# Altium schematic symbol library Vowstar_IC_General.SchLib: 140 symbols (part 1 of 2)
Pins are listed as number, name and electrical type; pins without a type are passive.

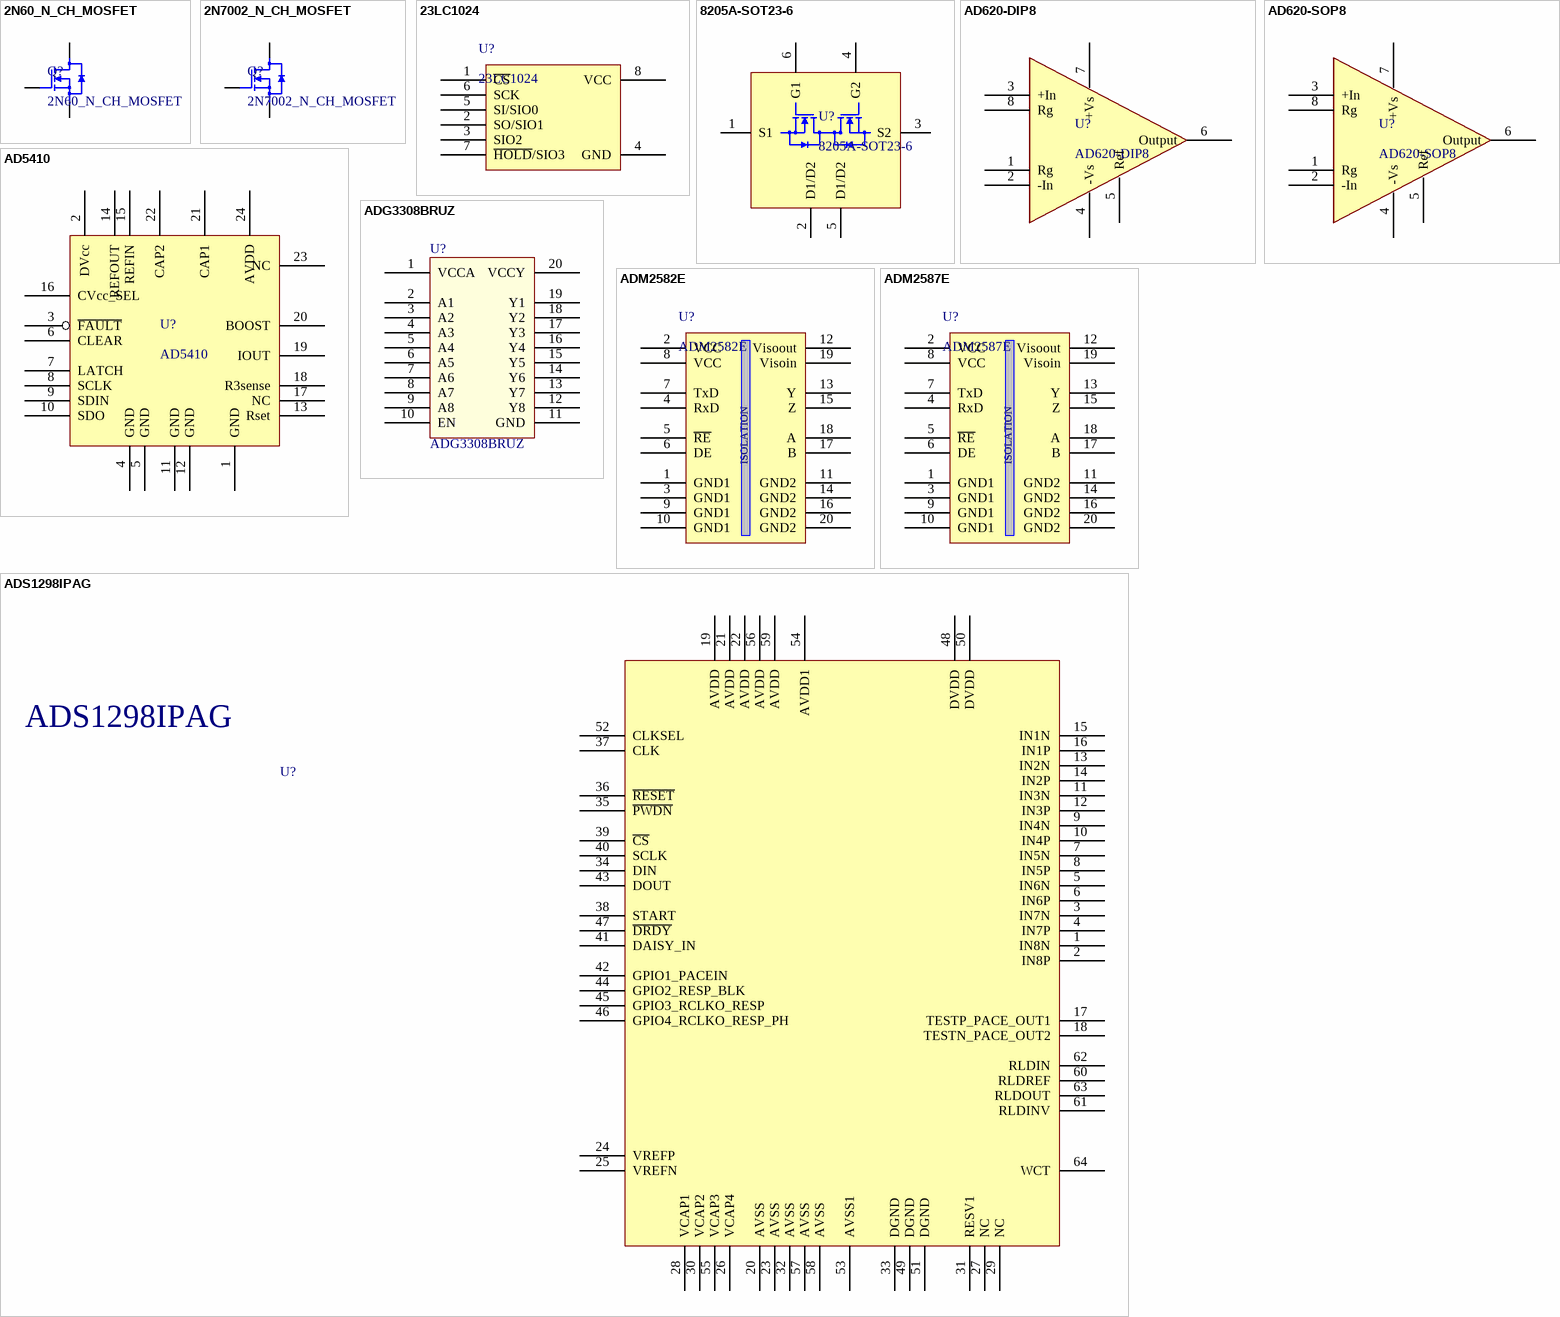
[diagram p0: symbols 2N60_N_CH_MOSFET to ADS1298IPAG]

## 2N60_N_CH_MOSFET
designator Q?
2 A, 600 Volts N-CHANNEL MOSFET
footprint TO-252-2 (TO-252-2,TD03B)
pins: 1 G, 2 D, 3 S

## 2N7002_N_CH_MOSFET
designator Q?
2N7002 N Channel,0.15A,60V. RDS(ON) = 1.2Ω @ VGS = 10 V
footprint SOT23-3 (SOT-23; 3 Leads; Body 3.0 x 2.5 mm, inc. leads (LxW max))
pins: 1 G, 2 S, 3 D

## 23LC1024
designator U?
1Mbit SPI Serial SRAM with SDI and SQI Interface
footprint SOP-8_N (8-Pin Small Outline Integrated Circuit 1.27 mm Pitch, IPC Medium Density)
footprint SOP-8_L (8-Pin Small Outline Integrated Circuit 1.27 mm Pitch, IPC High Density)
footprint SOP-8_M (8-Pin Small Outline Integrated Circuit 1.27 mm Pitch, IPC Low Density)
footprint DIP-8 (DIP8封装，100mil间距，300mil引脚宽度)
pins: 1 ~{CS} "Chip Select Input", 2 SO/SIO1 "Serial Output (SPI)/Serial I/O 1 (SDI)/Serial I/O 1 (SQI)", 3 SIO2 "Serial I/O 2 (SQI)", 4 GND "Ground", 5 SI/SIO0 "Serial Input (SPI)/Serial I/O 0 (SDI)/Serial I/O 0 (SQI)", 6 SCK "Serial Clock Input", 7 ~{HOLD}/SIO3 "Hold/Serial I/O 3", 8 VCC "Power Supply"

## 8205A-SOT23-6
designator U?
8205A Dual N-Channel Enhancement-Mode MOSFET (20V, 4A)
footprint SOT23-6 (SOT-457/SC-74; 6 Leads; Body 3 x 3 mm, inc. leads (LxW max))
pins: 1 S1, 2 D1/D2, 3 S2, 4 G2, 5 D1/D2, 6 G1

## AD620-DIP8
designator U?
footprint AD620-DIP8
pins: 1 Rg, 2 -In, 3 +In, 4 -Vs, 5 Ref, 6 Output, 7 +Vs, 8 Rg

## AD620-SOP8
designator U?
footprint AD620-SOP8
pins: 1 Rg, 2 -In, 3 +In, 4 -Vs, 5 Ref, 6 Output, 7 +Vs, 8 Rg

## AD5410
designator U?
footprint AD5410
pins: 1 GND, 2 DVcc, 3 ~{FAULT}, 4 GND, 5 GND, 6 CLEAR, 7 LATCH, 8 SCLK, 9 SDIN, 10 SDO, 11 GND, 12 GND, 13 Rset, 14 REFOUT, 15 REFIN, 16 CVcc_SEL, 17 NC, 18 R3sense, 19 IOUT, 20 BOOST, 21 CAP1, 22 CAP2, 23 NC, 24 AVDD

## ADG3308BRUZ
designator U?
footprint TSSOP-20 (TSSOP, Plastic; 20 Leads; Body Width 5.3 mm; Pitch 0.65 mm)
pins: 1 VCCA, 2 A1, 3 A2, 4 A3, 5 A4, 6 A5, 7 A6, 8 A7, 9 A8, 10 EN, 11 GND, 12 Y8, 13 Y7, 14 Y6, 15 Y5, 16 Y4, 17 Y3, 18 Y2, 19 Y1, 20 VCCY

## ADM2582E
designator U?
2.5 kV Signal and Power Isolated, ±15 kV ESD Protected, Full/Half Duplex RS-485 Transceiver (16Mbps)
footprint SOP-20 (20-Pin Small Outline Integrated Circuit 1.27 mm Pitch, IPC Low Density)
pins: 1 GND1 "Ground, Logic Side.", 2 VCC  "Logic Side Power Supply. It is recommended that a 0.1 μF and a 0.01 μF decoupling capacitor be fitted between  Pin 2 and Pin 1.", 3 GND1  "Ground, Logic Side.", 4 RxD "Receiver Output Data. This output is high when (A − B) ≥ −30 mV and low when (A − B) ≤ –200 mV.  The output is tristated when the receiver is disabled, that is, when RE is driven high.", 5 ~{RE} "Receiver Enable Input. This is an active-low input. Driving this input low enables the receiver; driving it  high disables the receiver.", 6 DE "Driver Enable Input. Driving this input high enables the driver; driving it low disables the driver.", 7 TxD "Driver Input. Data to be transmitted by the driver is applied to this input.", 8 VCC "Logic Side Power Supply. It is recommended that a 0.1 μF and a 10 μF decoupling capacitor be fitted between  Pin 8 and Pin 9.", 9 GND1 "Ground, Logic Side.", 10 GND1 "Ground, Logic Side.", 11 GND2 "Ground, Bus Side.", 12 Visoout "Isolated Power Supply Output. This pin must be connected externally to VISOIN. It is recommended that a reservoir capacitor of 10 μF and a decoupling capacitor of 0.1 μF be fitted between Pin 12 and Pin 11.", 13 Y "Driver Noninverting Output", 14 GND2 "Ground, Bus Side.", 15 Z "Driver Inverting Output", 16 GND2 "Ground, Bus Side.", 17 B "Receiver Inverting Input.", 18 A "Receiver Noninverting Input.", 19 Visoin "Isolated Power Supply Input. This pin must be connected externally to VISOOUT. It is recommended that a  0.1 μF and a 0.01 μF decoupling capacitor be fitted between Pin 19 and Pin 20.", 20 GND2 "Ground, Bus Side."
text: ISOLATION

## ADM2587E
designator U?
2.5 kV Signal and Power Isolated, ±15 kV ESD Protected, Full/Half Duplex RS-485 Transceiver (500kbps)
footprint SOP-20 (20-Pin Small Outline Integrated Circuit 1.27 mm Pitch, IPC Low Density)
pins: 1 GND1 "Ground, Logic Side.", 2 VCC  "Logic Side Power Supply. It is recommended that a 0.1 μF and a 0.01 μF decoupling capacitor be fitted between  Pin 2 and Pin 1.", 3 GND1  "Ground, Logic Side.", 4 RxD "Receiver Output Data. This output is high when (A − B) ≥ −30 mV and low when (A − B) ≤ –200 mV.  The output is tristated when the receiver is disabled, that is, when RE is driven high.", 5 ~{RE} "Receiver Enable Input. This is an active-low input. Driving this input low enables the receiver; driving it  high disables the receiver.", 6 DE "Driver Enable Input. Driving this input high enables the driver; driving it low disables the driver.", 7 TxD "Driver Input. Data to be transmitted by the driver is applied to this input.", 8 VCC "Logic Side Power Supply. It is recommended that a 0.1 μF and a 10 μF decoupling capacitor be fitted between  Pin 8 and Pin 9.", 9 GND1 "Ground, Logic Side.", 10 GND1 "Ground, Logic Side.", 11 GND2 "Ground, Bus Side.", 12 Visoout "Isolated Power Supply Output. This pin must be connected externally to VISOIN. It is recommended that a reservoir capacitor of 10 μF and a decoupling capacitor of 0.1 μF be fitted between Pin 12 and Pin 11.", 13 Y "Driver Noninverting Output", 14 GND2 "Ground, Bus Side.", 15 Z "Driver Inverting Output", 16 GND2 "Ground, Bus Side.", 17 B "Receiver Inverting Input.", 18 A "Receiver Noninverting Input.", 19 Visoin "Isolated Power Supply Input. This pin must be connected externally to VISOOUT. It is recommended that a  0.1 μF and a 0.01 μF decoupling capacitor be fitted between Pin 19 and Pin 20.", 20 GND2 "Ground, Bus Side."
text: ISOLATION

## ADS1298IPAG
designator U?
footprint ADS1298IPAG
pins: 1 IN8N, 2 IN8P, 3 IN7N, 4 IN7P, 5 IN6N, 6 IN6P, 7 IN5N, 8 IN5P, 9 IN4N, 10 IN4P, 11 IN3N, 12 IN3P, 13 IN2N, 14 IN2P, 15 IN1N, 16 IN1P, 17 TESTP_PACE_OUT1, 18 TESTN_PACE_OUT2, 19 AVDD, 20 AVSS, 21 AVDD, 22 AVDD, 23 AVSS, 24 VREFP, 25 VREFN, 26 VCAP4, 27 NC, 28 VCAP1, 29 NC, 30 VCAP2, 31 RESV1, 32 AVSS, 33 DGND, 34 DIN, 35 ~{PWDN}, 36 ~{RESET}, 37 CLK, 38 START, 39 ~{CS}, 40 SCLK, 41 DAISY_IN, 42 GPIO1_PACEIN, 43 DOUT, 44 GPIO2_RESP_BLK, 45 GPIO3_RCLKO_RESP, 46 GPIO4_RCLKO_RESP_PH, 47 ~{DRDY}, 48 DVDD, 49 DGND, 50 DVDD, 51 DGND, 52 CLKSEL, 53 AVSS1, 54 AVDD1, 55 VCAP3, 56 AVDD, 57 AVSS, 58 AVSS, 59 AVDD, 60 RLDREF, 61 RLDINV, 62 RLDIN, 63 RLDOUT, 64 WCT

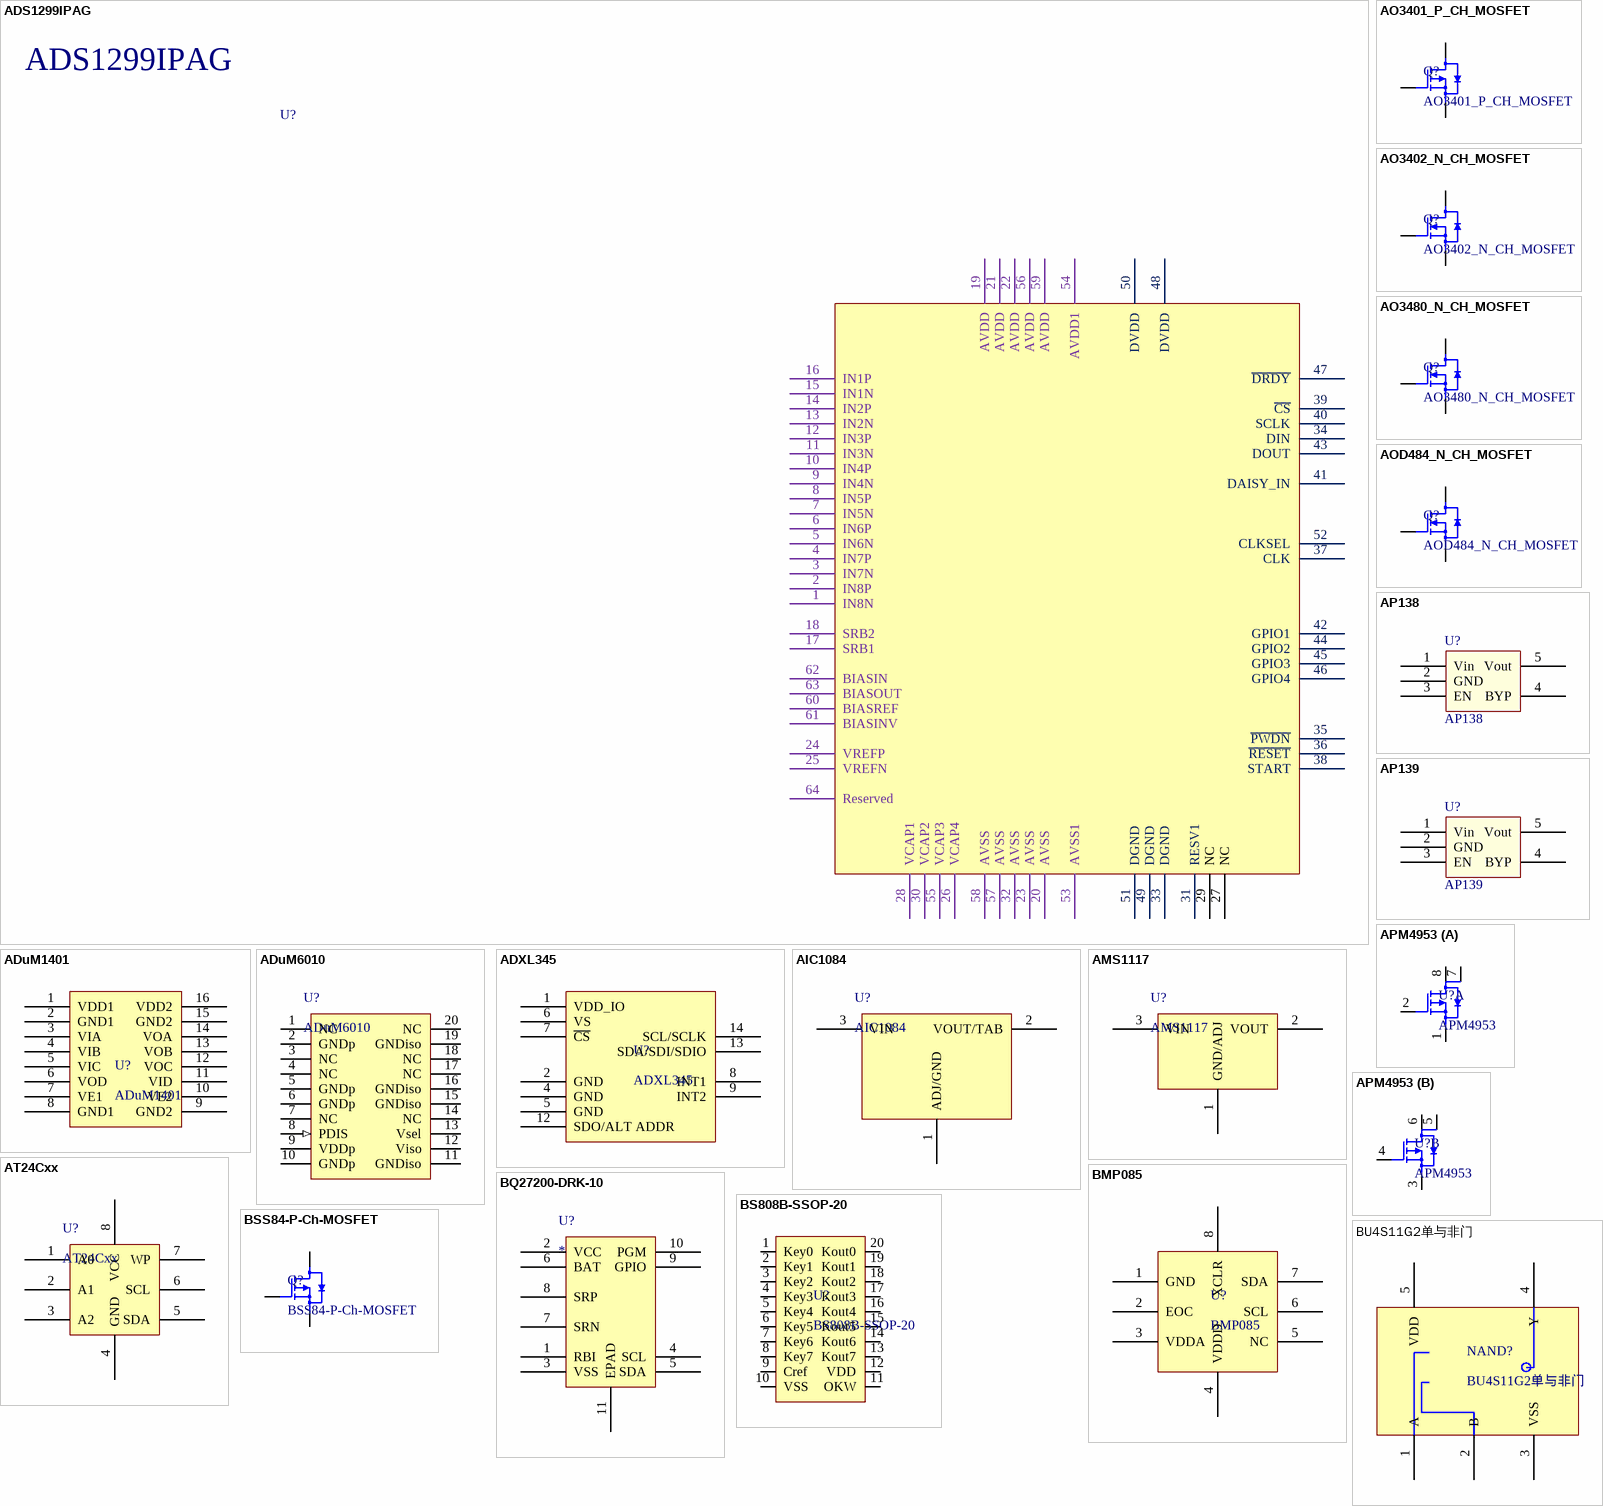
[diagram p1: symbols ADS1299IPAG to BU4S11G2单与非门]

## ADS1299IPAG
designator U?
Low-Noise, 8-Channel, 24-Bit Analog Front-End for Biopotential Measurements
footprint ADS1299IPAG (ADS1299IPAG,Low-Noise, 8-Channel, 24-Bit Analog Front-End for Biopotential Measurements)
pins: 1 IN8N "Differential analog negative input 8", 2 IN8P "Differential analog positive input 8", 3 IN7N "Differential analog negative input 7", 4 IN7P "Differential analog positive input 7", 5 IN6N "Differential analog negative input 6", 6 IN6P "Differential analog positive input 6", 7 IN5N "Differential analog negative input 5", 8 IN5P "Differential analog positive input 5", 9 IN4N "Differential analog negative input 4", 10 IN4P "Differential analog positive input 4", 11 IN3N "Differential analog negative input 3", 12 IN3P "Differential analog positive input 3", 13 IN2N "Differential analog negative input 2", 14 IN2P "Differential analog positive input 2", 15 IN1N "Differential analog negative input 1", 16 IN1P "Differential analog positive input 1", 17 SRB1 "Patient stimulus, reference, and bias signal 1", 18 SRB2 "Patient stimulus, reference, and bias signal 2", 19 AVDD "Analog supply", 20 AVSS "Analog ground", 21 AVDD "Analog supply", 22 AVDD "Analog supply", 23 AVSS "Analog ground", 24 VREFP "Positive reference voltage", 25 VREFN "Negative reference voltage", 26 VCAP4 "Analog bypass capacitor", 27 NC "No connection", 28 VCAP1 "Analog bypass capacitor", 29 NC "No connection", 30 VCAP2 "Analog bypass capacitor", 31 RESV1 "Reserved for future use. Must tie to logic low (DGND)", 32 AVSS "Analog ground", 33 DGND "Digital ground", 34 DIN "SPI data in", 35 ~{PWDN} "Power-down; active low", 36 ~{RESET} "System reset; active low", 37 CLK "Master clock input", 38 START "Start conversion", 39 ~{CS} "SPI chip select; active low", 40 SCLK "SPI clock", 41 DAISY_IN "Daisy-chain input", 42 GPIO1 "General-purpose input/output pin", 43 DOUT "SPI data out", 44 GPIO2 "General-purpose input/output pin", 45 GPIO3 "GPIO3 in normal mode", 46 GPIO4 "GPIO4 in normal mode", 47 ~{DRDY} "Data ready; active low", 48 DVDD "Digital power supply", 49 DGND "Digital ground", 50 DVDD "Digital power supply", 51 DGND "Digital ground", 52 CLKSEL "Master clock select", 53 AVSS1 "Analog ground", 54 AVDD1 "Analog supply", 55 VCAP3 "Analog bypass capacitor", 56 AVDD "Analog supply", 57 AVSS "Analog ground", 58 AVSS "Charge pump analog ground", 59 AVDD "Charge pump analog supply", 60 BIASREF "Bias drive noninverting input", 61 BIASINV "Bias drive inverting input", 62 BIASIN "Bias drive input to MUX", 63 BIASOUT "Bias drive output", 64 Reserved "Leave as open circuit"

## ADuM1401
designator U?
footprint ADUM1401
pins: 1 VDD1, 2 GND1, 3 VIA, 4 VIB, 5 VIC, 6 VOD, 7 VE1, 8 GND1, 9 GND2, 10 VE2, 11 VID, 12 VOC, 13 VOB, 14 VOA, 15 GND2, 16 VDD2

## ADuM6010
designator U?
Integrated DC-to-DC Converter
footprint SSOP-20 (SSOP, Plastic; 20 Leads; Body Width 5.3 mm; Pitch 0.65 mm)
pins: 1 NC "空引脚", 2 GNDp (power) "隔离器原边参考", 3 NC "空引脚", 4 NC "空引脚", 5 GNDp (power) "隔离器原边参考", 6 GNDp (power) "隔离器原边参考", 7 NC (power) "空引脚", 8 PDIS (in) "禁用电源转换", 9 VDDp (power) "原边电源电压，3.0 V至5.5 V", 10 GNDp (power) "隔离器原边参考地", 11 GNDiso (power) "隔离器第2侧的接地基准点", 12 Viso (power) "根据与VSEL相连的分压器，外部负载的副电源为3.15 V至5.5 V。", 13 Vsel (power) "输出电压选择输入", 14 NC "空引脚", 15 GNDiso (power) "隔离器第2侧的接地基准点", 16 GNDiso (power) "隔离器第2侧的接地基准点", 17 NC "空引脚", 18 NC "空引脚", 19 GNDiso (power) "隔离器第2侧的接地基准点", 20 NC "空引脚"

## ADXL345
designator U?
footprint ADXL345 (ADXL345 SMD Digital Accelerometer)
pins: 1 VDD_IO, 2 GND, 4 GND, 5 GND, 6 VS, 7 ~{CS}, 8 INT1, 9 INT2, 12 SDO/ALT ADDR, 13 SDA/SDI/SDIO, 14 SCL/SCLK

## AIC1084
designator U?
AIC1084 5A Low Dropout Positive Adjustable Regulator
footprint TO-252-2 (TO-252-2,TD03B)
pins: 1 ADJ/GND, 2 VOUT/TAB, 3 VIN

## AMS1117
designator U?
AMS1117 1A LOW DROPOUT VOLTAGE REGULATOR
footprint AMS1117-ADJ
pins: 1 GND/ADJ "Ground or Adjust", 2 VOUT "Voltage Output", 3 VIN "Voltage Input"

## AO3401_P_CH_MOSFET
designator Q?
AO3401 P Channel,-4.2A, -30V. RDS(ON) = 0.12Ω @ VGS = -2.5 V
footprint SOT23-3 (SOT-23; 3 Leads; Body 3.0 x 2.5 mm, inc. leads (LxW max))
pins: 1 G, 2 S, 3 D

## AO3402_N_CH_MOSFET
designator Q?
AO3402 N Channel,4A,30V. RDS(ON) = 0.11Ω @ VGS = 2.5V
footprint SOT23-3 (SOT-23; 3 Leads; Body 3.0 x 2.5 mm, inc. leads (LxW max))
pins: 1 G, 2 S, 3 D

## AO3480_N_CH_MOSFET
designator Q?
AO3480,5.7A,30V. RDS(ON) = 0.048Ω @ VGS = 2.5V
footprint SOT23-3 (SOT-23; 3 Leads; Body 3.0 x 2.5 mm, inc. leads (LxW max))
pins: 1 G, 2 S, 3 D

## AOD484_N_CH_MOSFET
designator Q?
30V N-Channel MOSFET, 25A, Gate Threshold Voltage 2.5V
footprint TO-252-2 (TO-252-2,TD03B)
pins: 1 G, 2 D, 3 S

## AP138
designator U?
AP138 300mA Low-Noise CMOS LDO
footprint SOT23-5
pins: 1 Vin "Power Supply", 2 GND (power) "Ground", 3 EN "Enable Pin", 4 BYP "Bypass Signal Pin", 5 Vout (power) "Output"

## AP139
designator U?
AP139 300mA Low-Noise CMOS LDO
footprint SOT23-5
pins: 1 Vin "Power Supply", 2 GND (power) "Ground", 3 EN "Enable Pin", 4 BYP "Bypass Signal Pin", 5 Vout (power) "Output"

## APM4953
designator U?
-30V/-4.9A(Rds=80mΩ@-4.5V) Dual P-Channel Enhancement Mode MOSFET
footprint SOP-8 (8-Pin Small Outline Integrated Circuit 1.27 mm Pitch, IPC Low Density)
part A pins: 1 S1, 2 G1, 7 D1, 8 D1
part B pins: 3 S2, 4 G2, 5 D2, 6 D2

## AT24Cxx
designator U?
EEPROM,Serial electrically erasable and programmable read only memory.
footprint SOP-8 (8-Pin Small Outline Integrated Circuit 1.27 mm Pitch, IPC Low Density)
footprint DIP-8 (DIP8封装，100mil间距，300mil引脚宽度)
footprint WSOP-8 (8-Pin Small Outline Package 1.27 mm Pitch, IPC Medium Density)
pins: 1 A0 "Address Inputs", 2 A1 "Address Inputs", 3 A2 "Address Inputs", 4 GND "Ground", 5 SDA "Serial Data", 6 SCL "Serial Clock Input", 7 WP "Write Protect", 8 VCC "Power Supply"

## BMP085
designator U?
footprint BMP085 (BMP085 SMD Digital barometric pressure sensor)
pins: 1 GND, 2 EOC, 3 VDDA, 4 VDDD, 5 NC, 6 SCL, 7 SDA, 8 XCLR

## BQ27200-DRK-10
designator U?
SINGLE CELL Li-Ion AND Li-Pol BATTERY GAS GAUGE IC FOR PORTABLE  APPLICATIONS (bqJUNIOR); Manufacturer: Texas Instruments; GENERIC_PART_NUMBER: BQ27200; INDUSTRY_STD_PKG_TYPE: VSON; FAMILY_NAME: BATTERY FUEL GAUGE; PIN_COUNT: 10; PACKAGE_DESIGNATOR: DRK; Datasheet URL: http://www.ti.com/lit/gpn/BQ27200; RefDes: RefDes; Type: DEV; Value: Value
footprint BQ27X00-DRK-10 (BQ27200,BQ27000 DRK(S-PVSON-N10))
pins: 1 RBI, 2 VCC (power), 3 VSS (power), 4 SCL, 5 SDA, 6 BAT, 7 SRN, 8 SRP, 9 GPIO, 10 PGM, 11 EPAD (power)

## BS808B-SSOP-20
designator U?
BS808B is 8 key  touch key devices which can detect human body contact  using external touch pads.
footprint SSOP-20Q (SSOP; 20 Leads; Body Width 3.9 mm; Pitch 0.64 mm)
pins: 1 Key0 "Touch key n input. These pins are connected to the external touch key.", 2 Key1 "Touch key n input. These pins are connected to the external touch key.", 3 Key2 "Touch key n input. These pins are connected to the external touch key.", 4 Key3 "Touch key n input. These pins are connected to the external touch key.", 5 Key4 "Touch key n input. These pins are connected to the external touch key.", 6 Key5 "Touch key n input. These pins are connected to the external touch key.", 7 Key6 "Touch key n input. These pins are connected to the external touch key.", 8 Key7 "Touch key n input. These pins are connected to the external touch key.", 9 Cref "Touch key reference capacitor input - value range of 0pF to 10pF - higher capacitance values  result in higher sensitivities.", 10 VSS "Negative power supply, ground.", 11 OKW "Selects One-key wake-up or Any-key wake-up.", 12 VDD "Positive power supply.", 13 Kout7 "Touch key n output pin.", 14 Kout6 "Touch key n output pin.", 15 Kout5 "Touch key n output pin.", 16 Kout4 "Touch key n output pin.", 17 Kout3 "Touch key n output pin.", 18 Kout2 "Touch key n output pin.", 19 Kout1 "Touch key n output pin.", 20 Kout0 "Touch key n output pin."

## BSS84-P-Ch-MOSFET
designator Q?
BSS84-P-Ch,-0.13A, -50V.RDS(ON) = 10Ω @ VGS = -5 V
footprint BSS84-P-Ch-MOSFET
pins: 1 G, 2 S, 3 D

## BU4S11G2单与非门
designator NAND?
footprint BU4S11G2单与非门
pins: 1 A, 2 B, 3 VSS, 4 Y, 5 VDD

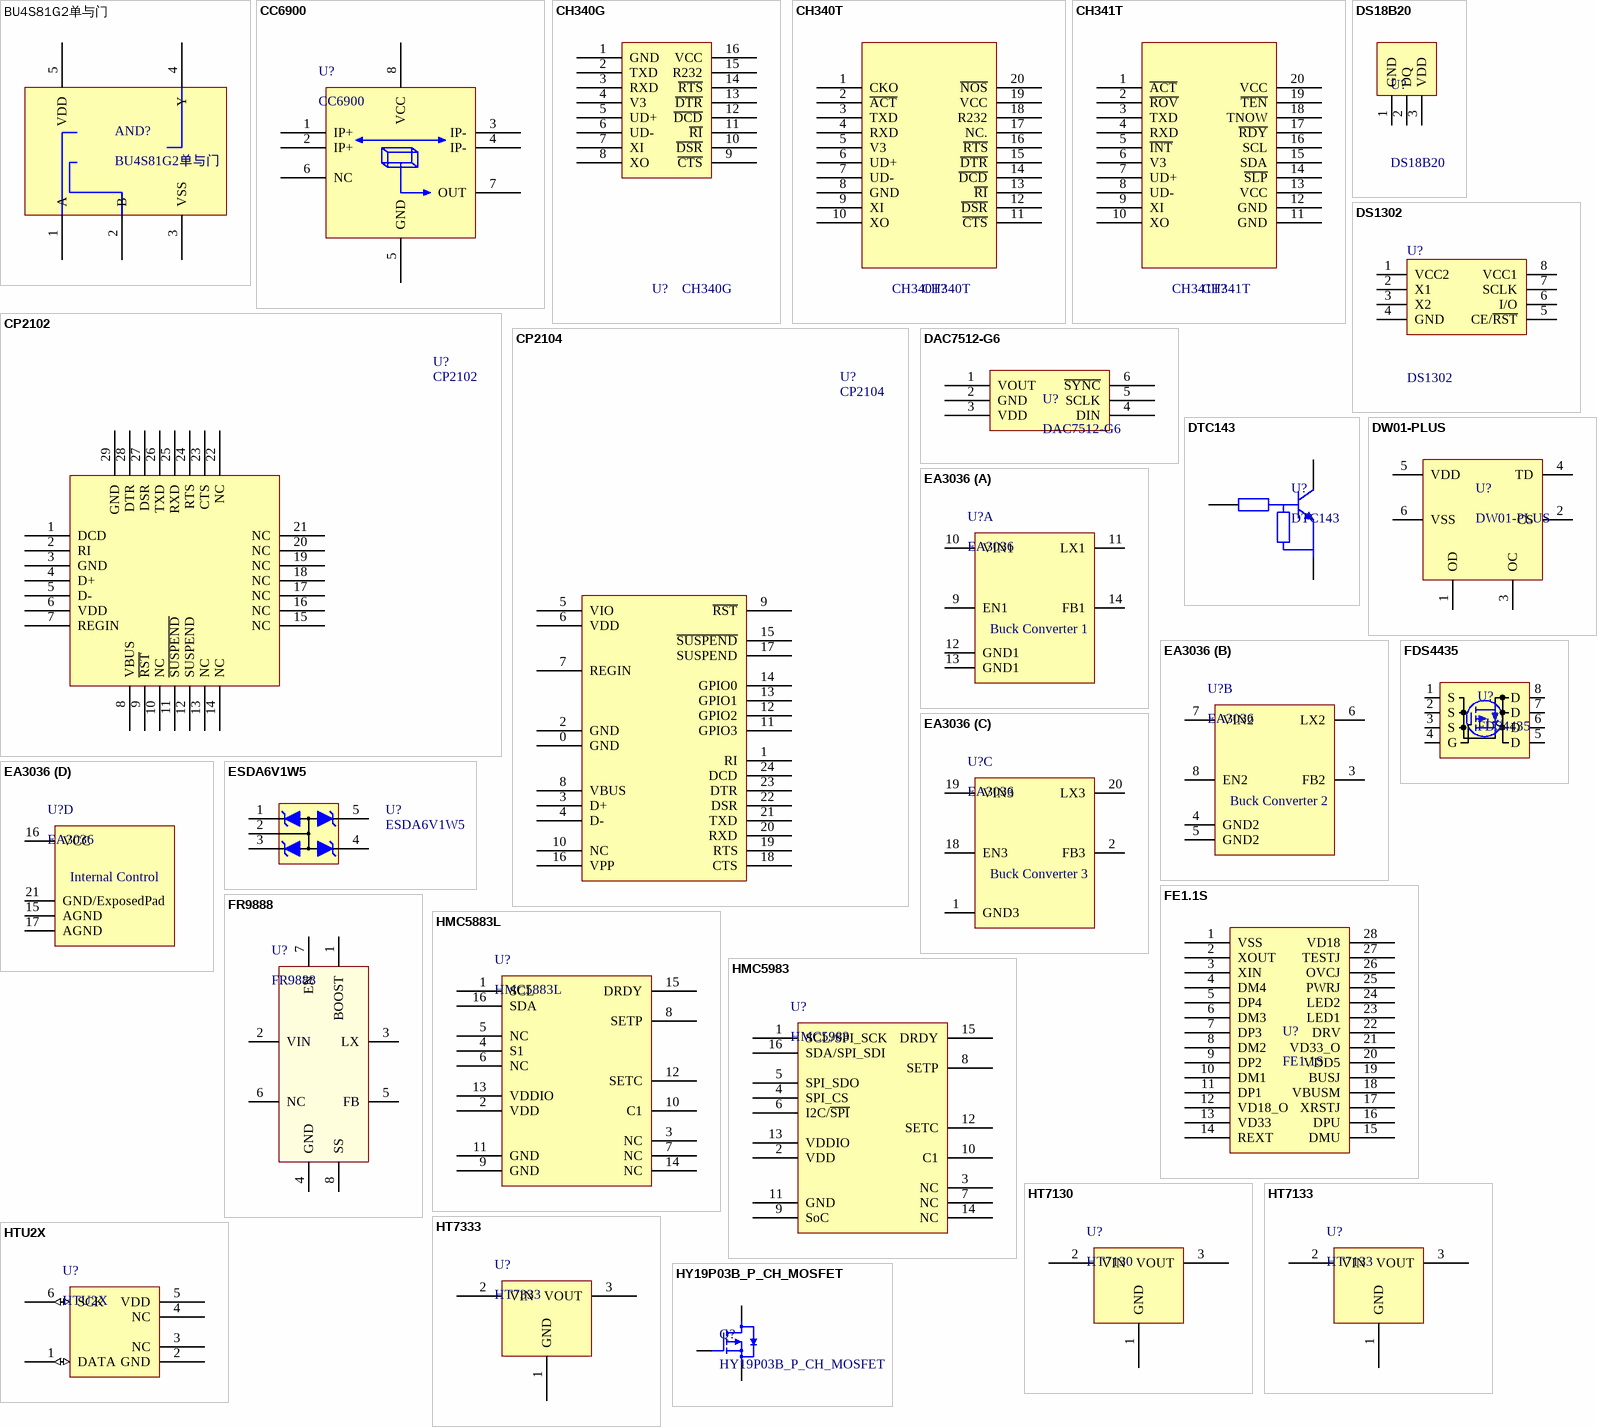
[diagram p2: symbols BU4S81G2单与门 to HY19P03B_P_CH_MOSFET]

## BU4S81G2单与门
designator AND?
footprint BU4S81G2单与门
pins: 1 A, 2 B, 3 VSS, 4 Y, 5 VDD

## CC6900
designator U?
CC6900 Single chip Hall current sensor / 5A/10A/20A
footprint SOP-8_M (8-Pin Small Outline Integrated Circuit 1.27 mm Pitch, IPC Low Density)
pins: 1 IP+ "Current sampling positive terminal", 2 IP+ "Current sampling positive terminal", 3 IP- "Current sampling negative terminal", 4 IP- "Current sampling negative terminal", 5 GND "Ground", 6 NC "Not connect", 7 OUT "Measurement signal output", 8 VCC "Power supply, 4.5 to 5.5V"

## CH340G
designator U?
CH340G USB to serial (UART) bridge
footprint SOP-16 (16-Pin Small Outline Integrated Circuit 1.27 mm Pitch, IPC Low Density)
pins: 1 GND, 2 TXD, 3 RXD, 4 V3, 5 UD+, 6 UD-, 7 XI, 8 XO, 9 ~{CTS}, 10 ~{DSR}, 11 ~{RI}, 12 ~{DCD}, 13 ~{DTR}, 14 ~{RTS}, 15 R232, 16 VCC

## CH340T
designator CH340T?
footprint CH340T
pins: 1 CKO, 2 ~{ACT}, 3 TXD, 4 RXD, 5 V3, 6 UD+, 7 UD-, 8 GND, 9 XI, 10 XO, 11 ~{CTS}, 12 ~{DSR}, 13 ~{RI}, 14 ~{DCD}, 15 ~{DTR}, 16 ~{RTS}, 17 NC., 18 R232, 19 VCC, 20 ~{NOS}

## CH341T
designator CH341T?
footprint CH341T
pins: 1 ~{ACT}, 2 ~{ROV}, 3 TXD, 4 RXD, 5 ~{INT}, 6 V3, 7 UD+, 8 UD-, 9 XI, 10 XO, 11 GND, 12 GND, 13 VCC, 14 ~{SLP}, 15 SDA, 16 SCL, 17 ~{RDY}, 18 TNOW, 19 ~{TEN}, 20 VCC

## CP2102
designator U?
footprint CP2102
pins: 1 DCD, 2 RI, 3 GND, 4 D+, 5 D-, 6 VDD, 7 REGIN, 8 VBUS, 9 ~{RST}, 10 NC, 11 ~{SUSPEND}, 12 SUSPEND, 13 NC, 14 NC, 15 NC, 16 NC, 17 NC, 18 NC, 19 NC, 20 NC, 21 NC, 22 NC, 23 CTS, 24 RTS, 25 RXD, 26 TXD, 27 DSR, 28 DTR, 29 GND

## CP2104
designator U?
Single-Chip USB to UART Bridge
footprint QFN24 (QFN24, 0.5Pitch, 4.0x4.0mm)
pins: 0 GND "Ground. Optional.", 1 RI "Ring Indicator control input (active low)", 2 GND "Ground. Must be tied to ground.", 3 D+ "USB D+", 4 D- "USB D–", 5 VIO "I/O Supply Voltage Input.", 6 VDD "Power Supply Voltage Input.  Voltage Regulator Output.", 7 REGIN "5 V Regulator Input. This pin is the input to the on-chip voltage regulator.", 8 VBUS "VBUS Sense Input. This pin should be connected to the VBUS signal  of a USB network.", 9 ~{RST} "Device Reset. Open-drain output of internal POR or VDD monitor. An  external source can initiate a system reset by driving this pin low for the time specified in datasheet.", 10 NC "This pin should be left unconnected or tied to VIO.", 11 GPIO3 "User-configurable input or output.", 12 GPIO2 "User-configurable input or output.", 13 GPIO1 "User-configurable input or output.", 14 GPIO0 "User-configurable input or output.", 15 ~{SUSPEND} "This pin is logic low when the CP2104 is in the USB Suspend state.", 16 VPP "Connect a 4.7 μF capacitor between this pin and ground to support  ROM programming via USB interface.", 17 SUSPEND "This pin is logic high when the CP2104 is in the USB Suspend state.", 18 CTS "Clear to Send control input (active low)", 19 RTS "Ready to Send control output (active low)", 20 RXD "Asynchronous data input (UART Receive)", 21 TXD "Asynchronous data output (UART Transmit)", 22 DSR "Data Set Ready control input (active low)", 23 DTR "Data Terminal Ready control output (active low)", 24 DCD "Data Carrier Detect control input (active low)"

## DAC7512-G6
designator U?
footprint DAC7512-G6
pins: 1 VOUT, 2 GND, 3 VDD, 4 DIN, 5 SCLK, 6 ~{SYNC}

## DS18B20
designator U?
footprint DS18B20
pins: 1 GND, 2 DQ, 3 VDD

## DS1302
designator U?
DS1302, RTC, Trickle-Charge Timekeeping Chip, Real-Time Clock Counts Seconds, Minutes, Hours, Date of the Month, Month, Day of the Week, and Year with Leap-Year Compensation Valid Up to 2100; VENDOR: DALLAS(MAXIM)
footprint SOP-8 (8-Pin Small Outline Integrated Circuit 1.27 mm Pitch, IPC Low Density)
footprint DIP-8 (DIP8封装，100mil间距，300mil引脚宽度)
pins: 1 VCC2 "Primary Power-Supply Pin in Dual Supply Configuration. VCC1 is connected to a backup source to maintain the time and date in the absence of primary power. The DS1302 operates from the larger of VCC1 or VCC2. When VCC2 is greater than VCC1 + 0.2V, VCC2 powers the DS1302. When VCC2 is less than VCC1, VCC1 powers the DS1302.", 2 X1 "Connections for Standard 32.768kHz Quartz Crystal. The internal oscillator is designed for operation with a crystal having a specified load capacitance of 6pF. For more information on crystal selection and crystal layout considerations, refer to Application Note 58: Crystal Considerations for Dallas Real-Time Clocks. The DS1302 can also be driven by an external 32.768kHz oscillator. In this configuration, the X1 pin is connected to the external oscillator signal and the X2 pin is floated.", 3 X2 "Connections for Standard 32.768kHz Quartz Crystal. The internal oscillator is designed for operation with a crystal having a specified load capacitance of 6pF. For more information on crystal selection and crystal layout considerations, refer to Application Note 58: Crystal Considerations for Dallas Real-Time Clocks. The DS1302 can also be driven by an external 32.768kHz oscillator. In this configuration, the X1 pin is connected to the external oscillator signal and the X2 pin is floated.", 4 GND "Ground", 5 CE/~{RST} "Input. CE signal must be asserted high during a read or a write. This pin has an internal 40kΩ (typ) pulldown resistor to ground. Note: Previous data sheet revisions referred to CE as RST. The functionality of the pin has not changed.", 6 I/O "Input/Push-Pull Output. The I/O pin is the bidirectional data pin for the 3-wire interface. This pin has an internal 40kΩ (typ) pulldown resistor to ground.", 7 SCLK "Input. SCLK is used to synchronize data movement on the serial interface. This pin has an internal 40kΩ (typ) pulldown resistor to ground.", 8 VCC1 "Low-Power Operation in Single Supply and Battery-Operated Systems and Low-Power Battery Backup. In systems using the trickle charger, the rechargeable energy source is connected to this pin. UL recognized to ensure against reverse charging current when used with a lithium battery."

## DTC143
designator U?
Digital transistors (built-in resistors)
footprint SOT23-3 (SOT-23; 3 Leads; Body 3.0 x 2.5 mm, inc. leads (LxW max))
pins: 1 B "IN", 2 E "GND", 3 C "OUT"

## DW01-PLUS
designator U?
One Cell Lithium-ion/Polymer Battery Protection IC
footprint SOT23-6 (SOT-457/SC-74; 6 Leads; Body 3 x 3 mm, inc. leads (LxW max))
pins: 1 OD "MOSFET gate connection pin for discharge control", 2 CS "Input pin for current sense, charger detect", 3 OC "MOSFET gate connection pin for charge control", 4 TD "Test pin for reduce delay time", 5 VDD "Power supply, through a resistor (R1)", 6 VSS "Ground pin"

## EA3036
designator U?
EA3036 is a 3CH power management IC for applications powered by one Li-Ion battery or a DC 5V adapter.
footprint QFN20_40P300X300X80_HS-21N (QFN, 20-Leads, Body 3.00x3.00mm, Pitch 0.40mm, Thermal Pad 1.65x1.65mm, IPC Medium Density)
part A pins: 9 EN1 "CH1 turns on/turns off control input. Don’t leave this pin floating.", 10 VIN1 (power) "Power input pin of CH1. Recommended to use a 10uF MLCC capacitor between VIN1 pin and GND1 pin.", 11 LX1 "Internal MOSFET switching output of CH1. Connect LX1 pin with a low pass filter circuit to obtain a stable DC output voltage.", 12 GND1 (power) "Power ground pin of CH1.", 13 GND1 (power) "Power ground pin of CH1.", 14 FB1 "Feedback input of CH1. Connect to output voltage with a resistor divider."
part B pins: 3 FB2 "Feedback input of CH2. Connect to output voltage with a resistor divider.", 4 GND2 (power) "Power ground pin of CH2.", 5 GND2 (power) "Power ground pin of CH2.", 6 LX2 "Internal MOSFET switching output of CH2. Connect LX2 pin with a low pass filter circuit to obtain a stable DC output voltage.", 7 VIN2 (power) "Power input pin of CH2. Recommended to use a 10uF MLCC capacitor between VIN2 pin and GND2 pin.", 8 EN2 "CH2 turns on/turns off control input. Don’t leave this pin floating."
part C pins: 1 GND3 (power) "Power ground pin of CH3.", 2 FB3 "Feedback input of CH3. Connect to output voltage with a resistor divider.", 18 EN3 "CH3 turns on/turns off control input. Don’t leave this pin floating.", 19 VIN3 (power) "Power input pin of CH3. Recommended to use a 10uF MLCC capacitor between VIN3 pin and GND3 pin.", 20 LX3 "Internal MOSFET switching output of CH3. Connect SW3 pin with a low pass filter circuit to obtain a stable DC output voltage."
part D pins: 15 AGND (power) "Analog ground pin.", 16 VCC (power) "Input supply pin for internal control circuit.", 17 AGND (power) "Analog ground pin.", 21 GND/ExposedPad (power) "The Exposed Pad must be soldered to a large PCB copper plane and connected to GND for appropriate dissipation."
part A text: Buck Converter 1
part B text: Buck Converter 2
part C text: Buck Converter 3
part D text: Internal Control

## ESDA6V1W5
designator U?
6.1V QUAL TRANSIL  ARRAY FOR ESD PROTECTION
footprint SC70-5 (SC70/SOT-323 (DCK) Package. 5-Lead Plastic SC70.)
pins: 1 1D, 2 GND, 3 2D, 4 3D, 5 4D

## FDS4435
designator U?
FDS4435 P-Channel Logic Level PowerTrench MOSFET
footprint FDS4435 (FDS4435 P-Channel Logic Level PowerTrench MOSFET)
pins: 1 S, 2 S, 3 S, 4 G, 5 D, 6 D, 7 D, 8 D

## FE1.1S
designator U?
footprint FE1.1S (SSOP,28,间距0.64mm)
pins: 1 VSS, 2 XOUT, 3 XIN, 4 DM4, 5 DP4, 6 DM3, 7 DP3, 8 DM2, 9 DP2, 10 DM1, 11 DP1, 12 VD18_O, 13 VD33, 14 REXT, 15 DMU, 16 DPU, 17 XRSTJ, 18 VBUSM, 19 BUSJ, 20 VDD5, 21 VD33_O, 22 DRV, 23 LED1, 24 LED2, 25 PWRJ, 26 OVCJ, 27 TESTJ, 28 VD18

## FR9888
designator U?
23V, 3.5A, 340KHz Synchronous Step-Down  DC/DC Converter
footprint FR9888 (FR9888 SOP8 With Pad)
pins: 1 BOOST, 2 VIN, 3 LX, 4 GND, 5 FB, 6 NC, 7 EN, 8 SS

## HMC5883L
designator U?
3-Axis Digital Compass IC
footprint HMC5883L (HMC5883L 3-Axis Digital Compass IC)
pins: 1 SCL, 2 VDD, 3 NC, 4 S1, 5 NC, 6 NC, 7 NC, 8 SETP, 9 GND, 10 C1, 11 GND, 12 SETC, 13 VDDIO, 14 NC, 15 DRDY, 16 SDA

## HMC5983
designator U?
3-Axis Digital Compass IC
footprint HMC5883L (HMC5883L 3-Axis Digital Compass IC)
pins: 1 SCL/SPI_SCK, 2 VDD, 3 NC, 4 SPI_CS, 5 SPI_SDO, 6 I2C/~{SPI}, 7 NC, 8 SETP, 9 SoC, 10 C1, 11 GND, 12 SETC, 13 VDDIO, 14 NC, 15 DRDY, 16 SDA/SPI_SDI

## HT7130
designator U?
footprint SOT-89 (SOT-89-3L SMT PACKAGE)
footprint TO-92 (TO-92 3 Pins THT Package)
pins: 1 GND, 2 VIN, 3 VOUT

## HT7133
designator U?
footprint SOT-89 (SOT-89-3L SMT PACKAGE)
footprint TO-92 (TO-92 3 Pins THT Package)
pins: 1 GND, 2 VIN, 3 VOUT

## HT7333
designator U?
footprint SOT-89 (SOT-89-3L SMT PACKAGE)
footprint TO-92 (TO-92 3 Pins THT Package)
pins: 1 GND, 2 VIN, 3 VOUT

## HTU2X
designator U?
Humidity and Temperature Sensor
footprint HTU2X (HTU2X, The outer dotted line represents the  outer dime  nsion of the DFN package)
pins: 1 DATA (io) "Serial  Data  , bidirectional", 2 GND (power) "Ground", 3 NC "Not Connected, floating", 4 NC "Not Connected, floating", 5 VDD (power) "Supply Voltage", 6 SCK (io) "Serial Clock, bidirectional"

## HY19P03B_P_CH_MOSFET
designator Q?
HY19P03P/B -30V/-90A P-Channel Enhancement Mode MOSFET
footprint TO-263-2 (TO-263-2,KTT2, The D2PAK or DDPAK, standardized as TO-263)
pins: 1 G, 2 D, 3 S

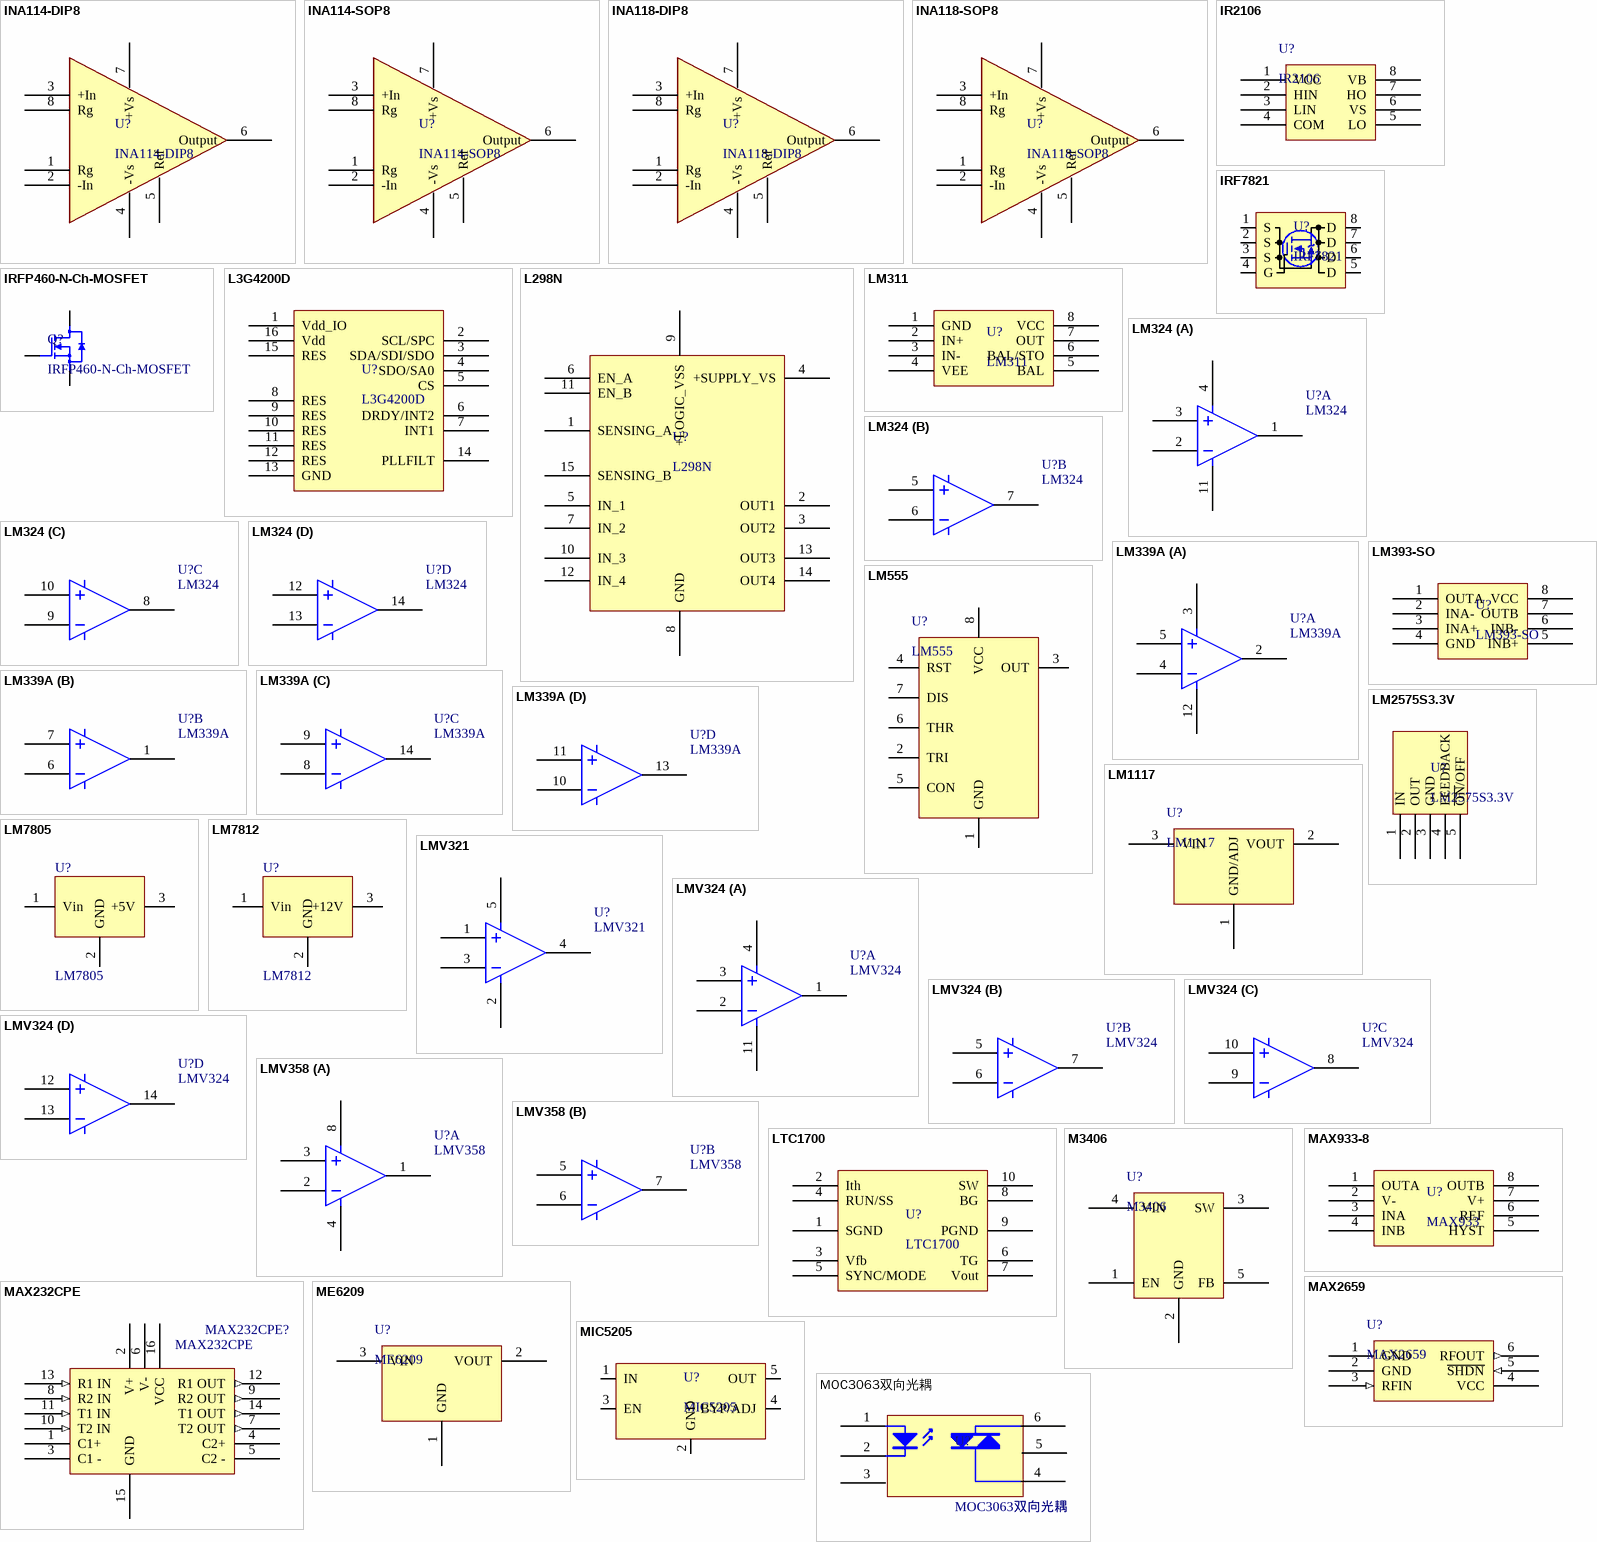
[diagram p3: symbols INA114-DIP8 to MOC3063双向光耦]

## INA114-DIP8
designator U?
footprint INA114-DIP8
pins: 1 Rg, 2 -In, 3 +In, 4 -Vs, 5 Ref, 6 Output, 7 +Vs, 8 Rg

## INA114-SOP8
designator U?
footprint INA114-SOP8
pins: 1 Rg, 2 -In, 3 +In, 4 -Vs, 5 Ref, 6 Output, 7 +Vs, 8 Rg

## INA118-DIP8
designator U?
footprint INA118-DIP8
pins: 1 Rg, 2 -In, 3 +In, 4 -Vs, 5 Ref, 6 Output, 7 +Vs, 8 Rg

## INA118-SOP8
designator U?
footprint INA118-SOP8
pins: 1 Rg, 2 -In, 3 +In, 4 -Vs, 5 Ref, 6 Output, 7 +Vs, 8 Rg

## IR2106
designator U?
The IR2106(4)(S) are high voltage,  high speed power MOSFET and  IGBT drivers with independent high  and low side referenced output channels.
footprint SOP-8 (8-Pin Small Outline Integrated Circuit 1.27 mm Pitch, IPC Low Density)
pins: 1 VCC, 2 HIN, 3 LIN, 4 COM, 5 LO, 6 VS, 7 HO, 8 VB

## IRF7821
designator U?
IRF7821 N-Channel Power MOSFET
footprint IRF7821 (IRF7821 Power MOSFET)
pins: 1 S, 2 S, 3 S, 4 G, 5 D, 6 D, 7 D, 8 D

## IRFP460-N-Ch-MOSFET
designator Q?
IRFP460 500V 20A 15mOhm@10V Gate Threshold Voltage 4.0V
footprint IRFP460-NMOS
pins: 1 G, 2 D, 3 S

## L3G4200D
designator U?
footprint L3G4200D (L3G4200D MEMS motion sensor:  ultra-stable three-axis digital output gyroscope)
pins: 1 Vdd_IO, 2 SCL/SPC, 3 SDA/SDI/SDO, 4 SDO/SA0, 5 CS, 6 DRDY/INT2, 7 INT1, 8 RES, 9 RES, 10 RES, 11 RES, 12 RES, 13 GND (power), 14 PLLFILT, 15 RES, 16 Vdd

## L298N
designator U?
footprint L298N
pins: 1 SENSING_A, 2 OUT1, 3 OUT2, 4 +SUPPLY_VS, 5 IN_1, 6 EN_A, 7 IN_2, 8 GND, 9 +LOGIC_VSS, 10 IN_3, 11 EN_B, 12 IN_4, 13 OUT3, 14 OUT4, 15 SENSING_B

## LM311
designator U?
footprint LM311
pins: 1 GND, 2 IN+, 3 IN-, 4 VEE, 5 BAL, 6 BAL/STO, 7 OUT, 8 VCC

## LM324
designator U?
Low-Power Amplifiers
footprint LM324-D
footprint LM324-N
part A pins: 1 1OUT "Output 1", 2 1IN– "Inverting input 1", 3 1IN+ "Non-inverting input 1", 4 VCC "Positive supply voltage", 11 GND "Ground"
part B pins: 5 2IN+ "Non-inverting input 2", 6 2IN- "Inverting input 2", 7 2OUT "Output 2"
part C pins: 8 3OUT "Output 3", 9 3IN- "Inverting input 1", 10 3IN+ "Non-inverting input 3"
part D pins: 12 4IN+ "Non-inverting input 4", 13 4IN- "Inverting input 4", 14 4OUT "Output 4"

## LM339A
designator U?
footprint LM339A
part A pins: 2, 3, 4, 5, 12
part B pins: 1, 6, 7
part C pins: 8, 9, 14
part D pins: 10, 11, 13

## LM393-SO
designator U?
footprint LM393-SO
pins: 1 OUTA, 2 INA-, 3 INA+, 4 GND, 5 INB+, 6 INB-, 7 OUTB, 8 VCC

## LM555
designator U?
Timer,highly stable device for generating accurate timedelays or oscillation.
footprint DIP-8 (DIP8封装，100mil间距，300mil引脚宽度)
footprint SOP-8 (8-Pin Small Outline Integrated Circuit 1.27 mm Pitch, IPC Low Density)
pins: 1 GND, 2 TRI, 3 OUT, 4 RST, 5 CON, 6 THR, 7 DIS, 8 VCC

## LM1117
designator U?
LM1117/LM1117I 800mA Low-Dropout Linear Regulator
footprint SOT-223 (3 LEAD SOT-223 PLASTIC PACKAGE)
pins: 1 GND/ADJ "Ground or Adjust", 2 VOUT "Voltage Output", 3 VIN "Voltage Input"

## LM2575S3.3V
designator U?
footprint LM2575S3.3V
pins: 1 IN, 2 OUT, 3 GND, 4 FEEDBACK, 5 ~{ON}/OFF

## LM7805
designator U?
LM7805 POSITIVE-VOLTAGE REGULATORS
footprint LM78XX
pins: 1 Vin, 2 GND, 3 +5V

## LM7812
designator U?
LM7812 POSITIVE-VOLTAGE REGULATORS
footprint LM78XX
pins: 1 Vin, 2 GND, 3 +12V

## LMV321
designator U?
Low-Voltage Rail-To-Rail Output Operational Amplifiers
footprint SC70-5 (SC70/SOT-323 (DCK) Package. 5-Lead Plastic SC70.)
footprint SOT23-5 (SOT-23/SC-74A; 5 Leads; Body 3 x 3 mm, inc. leads (LxW max))
pins: 1 1IN+ "Non-inverting input 1", 2 GND "Ground", 3 1IN– "Inverting input 1", 4 1OUT "Output 1", 5 VCC "Positive supply voltage"

## LMV324
designator U?
Low-Voltage Rail-To-Rail Output Operational Amplifiers
footprint LM324-D
part A pins: 1 1OUT "Output 1", 2 1IN– "Inverting input 1", 3 1IN+ "Non-inverting input 1", 4 VCC "Positive supply voltage", 11 GND "Ground"
part B pins: 5 2IN+ "Non-inverting input 2", 6 2IN- "Inverting input 2", 7 2OUT "Output 2"
part C pins: 8 3OUT "Output 3", 9 3IN- "Inverting input 1", 10 3IN+ "Non-inverting input 3"
part D pins: 12 4IN+ "Non-inverting input 4", 13 4IN- "Inverting input 4", 14 4OUT "Output 4"

## LMV358
designator U?
Low-Voltage Rail-To-Rail Output Operational Amplifiers
footprint SOP-8_N (8-Pin Small Outline Integrated Circuit 1.27 mm Pitch, IPC Medium Density)
footprint SOP-8_L (8-Pin Small Outline Integrated Circuit 1.27 mm Pitch, IPC High Density)
footprint SOP-8_M (8-Pin Small Outline Integrated Circuit 1.27 mm Pitch, IPC Low Density)
part A pins: 1 1OUT "Output 1", 2 1IN– "Inverting input 1", 3 1IN+ "Non-inverting input 1", 4 GND "Ground", 8 VCC "Positive supply voltage"
part B pins: 5 2IN+ "Non-inverting input 2", 6 2IN- "Inverting input 2", 7 2OUT "Output 2"

## LTC1700
designator U?
LTC1700 No RSENSE Synchronous  Step-Up DC/DC Controller
footprint LTC1700 (Shrink Small Outline; 10 Leads; Body Width 3 mm; Pitch 0.5 mm)
pins: 1 SGND, 2 Ith, 3 Vfb, 4 RUN/SS, 5 SYNC/MODE, 6 TG, 7 Vout, 8 BG, 9 PGND, 10 SW

## M3406
designator U?
1.5MHz, 800mA Synchronous Step-Down Converter
footprint SOT23-5 (SOT-23/SC-74A; 5 Leads; Body 3 x 3 mm, inc. leads (LxW max))
pins: 1 EN "Chip Enable Mode Switch", 2 GND "Ground", 3 SW "Switching Output", 4 VIN "Power Input", 5 FB "Output Voltage Sense (Feedback)"

## MAX232CPE
designator MAX232CPE?
footprint MAX232CPE
pins: 1 C1+, 2 V+ (power) hidden to V+, 3 C1 -, 4 C2+, 5 C2 -, 6 V- (power) hidden to V-, 7 T2 OUT (out), 8 R2 IN (in), 9 R2 OUT (out), 10 T2 IN (in), 11 T1 IN (in), 12 R1 OUT (out), 13 R1 IN (in), 14 T1 OUT (out), 15 GND (power) hidden to GND, 16 VCC (power) hidden to VCC

## MAX933-8
designator U?, comment MAX933
footprint MAX933-8 (MAX933)
pins: 1 OUTA, 2 V-, 3 INA, 4 INB, 5 HYST, 6 REF, 7 V+, 8 OUTB

## MAX2659
designator U?
GPS/GNSS Low-Noise Amplifier
footprint UDFN-6 (1.5mm x 1.0mm x 0.75mm,  6-pin μDFN package.)
pins: 1 GND, 2 GND, 3 RFIN (in), 4 VCC, 5 ~{SHDN} (in), 6 RFOUT (out)

## ME6209
designator U?
250mA 18V Low Power Consumption LDO ME6209 Series
footprint SOT23-3 (SOT-23; 3 Leads; Body 3.0 x 2.5 mm, inc. leads (LxW max))
pins: 1 GND "Ground", 2 VOUT "Voltage Output", 3 VIN "Voltage Input"

## MIC5205
designator U?
MIC5205,Ultra noise LDO
footprint MIC5205 (SOT-23/SC-74A; 5 Leads; Body 3 x 3 mm, inc. leads (LxW max))
pins: 1 IN, 2 GND, 3 EN, 4 BYP/ADJ, 5 OUT

## MOC3063双向光耦
designator U?
footprint MOC3063双向光耦
pins: 1 ANODE, 2 CATHODE, 3 NC, 4 MAIN TERMINAL, 5 SUBSTRATE, 6 MAIN TERMINAL

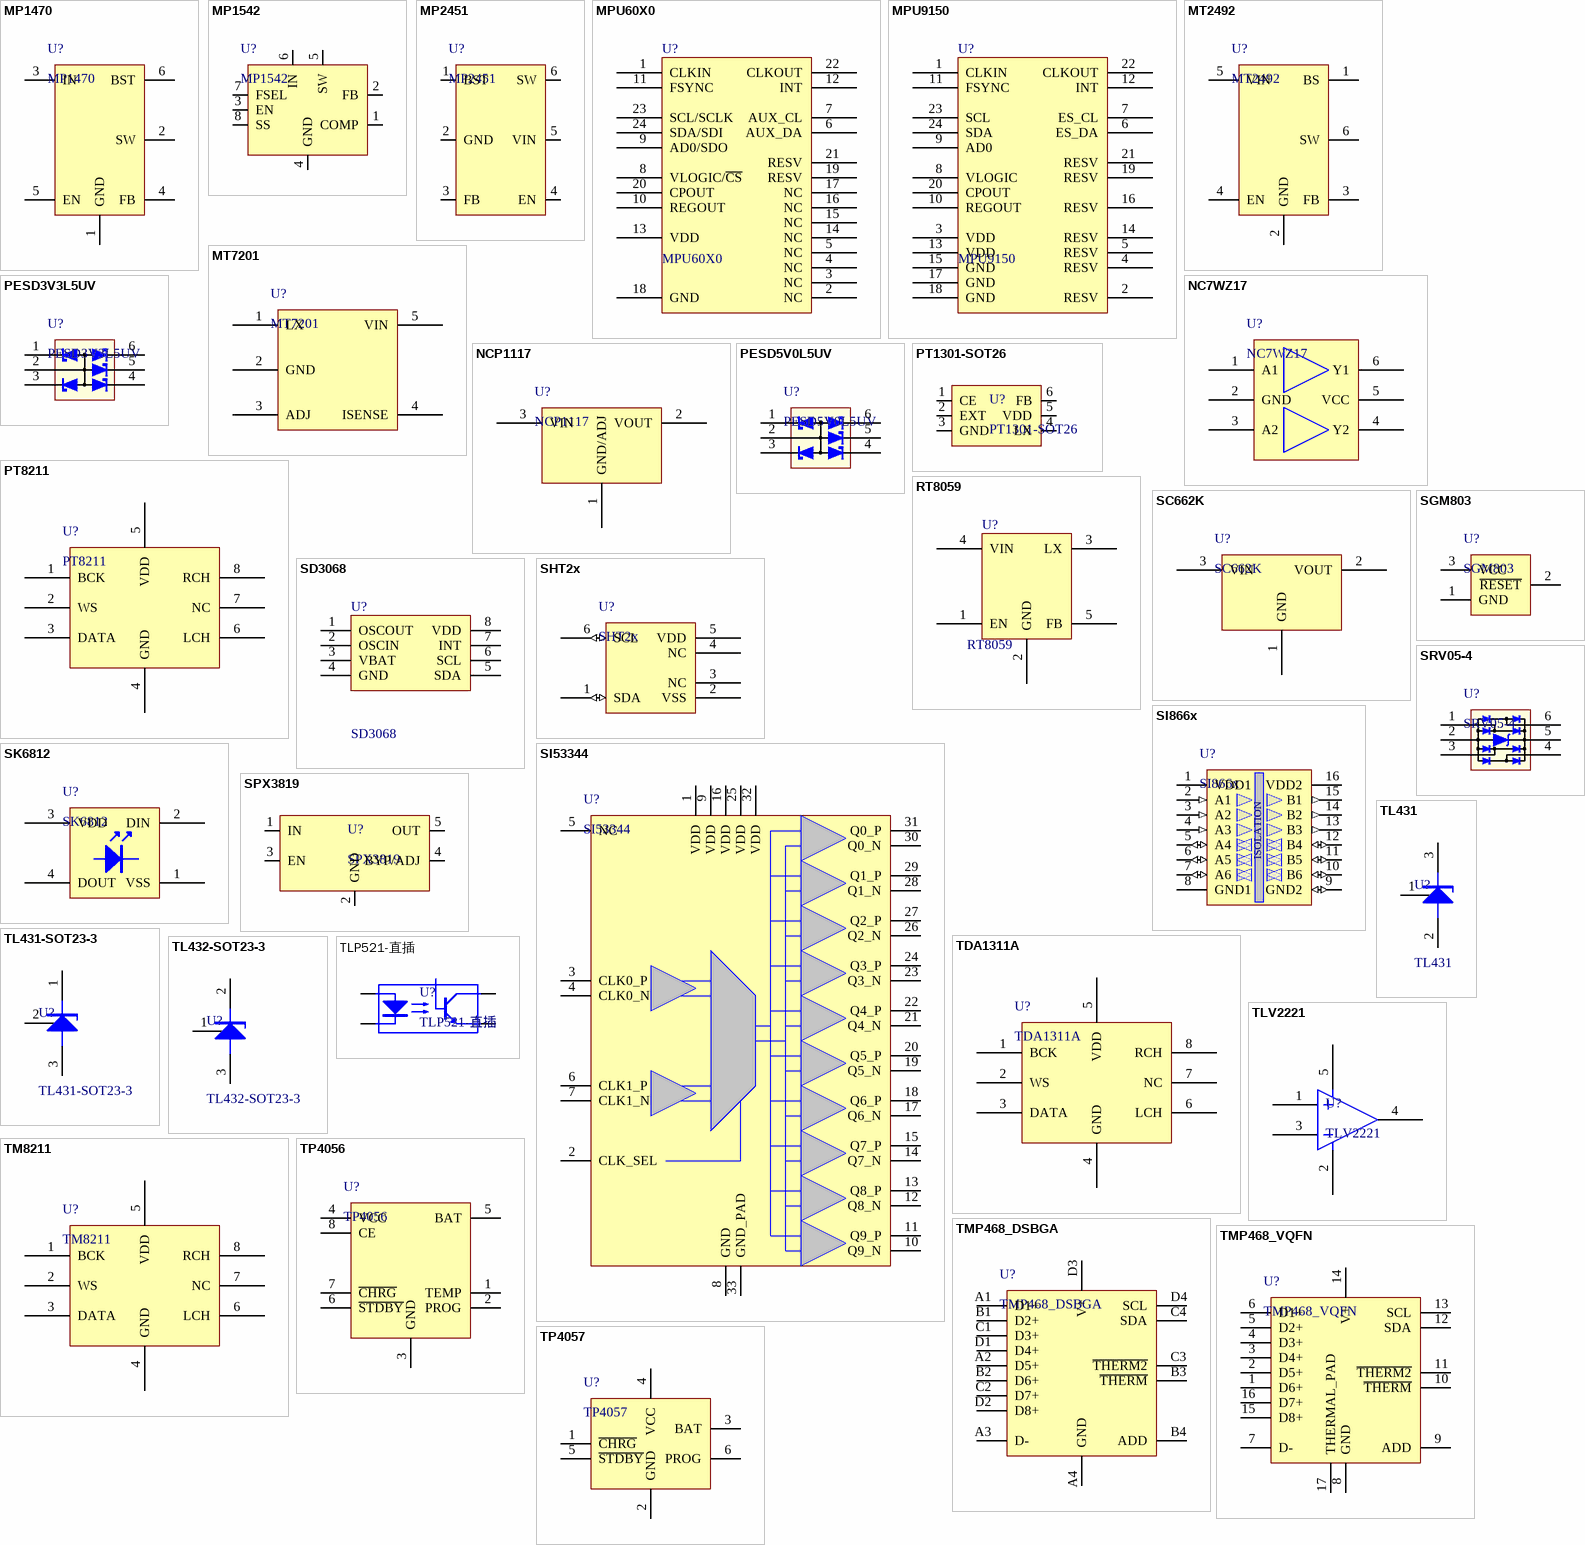
[diagram p4: symbols MP1470 to TP4057]

## MP1470
designator U?
High-Efficiency, 2A, 16V, 500kHz  Synchronous, Step-Down Converter
footprint SOT23-6 (SOT-457/SC-74; 6 Leads; Body 3 x 3 mm, inc. leads (LxW max))
pins: 1 GND, 2 SW, 3 IN, 4 FB, 5 EN, 6 BST

## MP1542
designator U?
footprint SSOP-8 (SSOP, Plastic; 8 Leads; Body Width 5.3 mm; Pitch 0.65 mm)
pins: 1 COMP "Compensation Pin. Connect a capacitor and resistor in series to ground for loop stability.", 2 FB "Feedback Input. Reference voltage is 1.25V. Connect a resistor divider to this pin.", 3 EN "Regulator On/Off Control Input. A high input at EN turns on the converter, and a low input turns  it off. When not used, connect EN to the input source (through a 100kΩ pull-up resistor if VIN >  6V) for automatic startup. EN cannot be left floating.", 4 GND "Ground.", 5 SW "Power Switch Output. SW is the drain of the internal MOSFET switch. Connect the power  inductor and output rectifier to SW. SW can swing between GND and 25V.", 6 IN "Input Supply Pin. IN must be locally bypassed.", 7 FSEL "Frequency Select Pin. Tie to IN (through a 100kΩ resistor if VIN > 6V) for 1.3MHz operation or to  GND for 700KHz operation.", 8 SS "Soft-Start Control Pin. Connect a soft-start capacitor to this pin. The soft-start capacitor is  charged with a constant current of 6μA."

## MP2451
designator U?
MP2451-36V, 2MHz, 0.6A, STEP-DOWN CONVERTER
footprint SOT23-6 (SOT-457/SC-74; 6 Leads; Body 3 x 3 mm, inc. leads (LxW max))
pins: 1 BST "Bootstrap. This is the positive power supply for the internal floating high side MOSFET  driver. Connect a bypass capacitor between this pin and SW pin.", 2 GND "Ground. It should be connected as close as possible to the output capacitor avoiding  the high current switch paths.", 3 FB "Feedback. This is the input to the error amplifier. An external resistive divider  connected between the output and GND is compared to the internal +0.8V reference  to set the regulation voltage.", 4 EN "Enable input. Pulling this pin below the specified threshold shuts the chip down. Pulling  it above the specified threshold enables the chip. Floating this pin shuts the chip down.", 5 VIN "Input Supply. This supplies power to all the internal control circuitry, both BS regulators  and the high side switch. A decoupling capacitor to ground is required close to this pin  to reduce switching spikes.", 6 SW "Switch node. This is the output from the high-side switch. A low VF Schottky diode to  ground is required close to this pin to reduce switching spikes."

## MPU60X0
designator U?
MPU60X0 Six-Axis (Gyro + Accelerometer) MEMS
footprint MPU60X0 (24 Lead QFN (4x4x0.9) mm NiPdAu Lead-frame finish)
pins: 1 CLKIN, 2 NC, 3 NC, 4 NC, 5 NC, 6 AUX_DA, 7 AUX_CL, 8 VLOGIC/~{CS}, 9 AD0/SDO, 10 REGOUT, 11 FSYNC, 12 INT, 13 VDD, 14 NC, 15 NC, 16 NC, 17 NC, 18 GND, 19 RESV, 20 CPOUT, 21 RESV, 22 CLKOUT, 23 SCL/SCLK, 24 SDA/SDI

## MPU9150
designator U?
MPU9150 Nine-Axis (Gyro + Accelerometer + Compass) MEMS
footprint MPU9150 (24 Lead QFN (4x4x0.9) mm NiPdAu Lead-frame finish)
pins: 1 CLKIN, 2 RESV, 3 VDD, 4 RESV, 5 RESV, 6 ES_DA, 7 ES_CL, 8 VLOGIC, 9 AD0, 10 REGOUT, 11 FSYNC, 12 INT, 13 VDD, 14 RESV, 15 GND, 16 RESV, 17 GND, 18 GND, 19 RESV, 20 CPOUT, 21 RESV, 22 CLKOUT, 23 SCL, 24 SDA

## MT2492
designator U?
2A,4.5V-16V Input,600kHz  Synchronous Step-Down Converter
footprint SOT23-6 (SOT-457/SC-74; 6 Leads; Body 3 x 3 mm, inc. leads (LxW max))
pins: 1 BS "Bootstrap. A capacitor connected between SW and BS pins is required to form a floating supply across the high-side switch driver.", 2 GND "Analog ground pin.", 3 FB "Adjustable version feedback input. Connect FB to the center point of the external resistor divider.", 4 EN "Drive this pin to a logic-high to enable the IC. Drive to a logic-low to disable the IC and enter micro-power shutdown mode.", 5 VIN "Power supply Pin", 6 SW "Switching Pin"

## MT7201
designator U?
MT7201 1A DC-DC LED Driver
footprint SOT-89-5 (SOT-89-5L SMT PACKAGE)
pins: 1 LX, 2 GND, 3 ADJ, 4 ISENSE, 5 VIN

## NC7WZ17
designator U?
TinyLogic UHS Dual Buffer with Schmitt Trigger Inputs
footprint SC70-6 (SC6 Package. 6-Lead Plastic SC70.)
pins: 1 A1, 2 GND, 3 A2, 4 Y2, 5 VCC, 6 Y1

## NCP1117
designator U?
NCP1117, NCV1117. 1.0 A Low-Dropout Positive  Fixed and Adjustable  Voltage Regulators
footprint SOT-223 (3 LEAD SOT-223 PLASTIC PACKAGE)
pins: 1 GND/ADJ "Ground or Adjust", 2 VOUT "Voltage Output", 3 VIN "Voltage Input"

## PESD3V3L5UV
designator U?
Low capacitance 5-fold ESD protection  diode arrays in SOT666 package
footprint SOT666 (SOP, 6-Flat Leads, Body 1.6x1.6x0.6mm, inc leads (LxWxH typ), Pitch 0.5mm, ST Recommended)
pins: 1, 2, 3, 4, 5, 6

## PESD5V0L5UV
designator U?
Low capacitance 5-fold ESD protection  diode arrays in SOT666 package
footprint SOT666 (SOP, 6-Flat Leads, Body 1.6x1.6x0.6mm, inc leads (LxWxH typ), Pitch 0.5mm, ST Recommended)
pins: 1, 2, 3, 4, 5, 6

## PT1301-SOT26
designator U?
footprint PT1301-SOT26
pins: 1 CE, 2 EXT, 3 GND, 4 LX, 5 VDD, 6 FB

## PT8211
designator U?
Stereo Continuous Calibration DAC
footprint SOP-8_N (8-Pin Small Outline Integrated Circuit 1.27 mm Pitch, IPC Medium Density)
pins: 1 BCK "bit clock input", 2 WS "word select input", 3 DATA "data input", 4 GND "ground", 5 VDD "supply voltage", 6 LCH "left channel output", 7 NC "not connected", 8 RCH "right channel output"

## RT8059
designator U?
1.5MHz, 1A, High Efficiency PWM Step-Down DC/DC Converter
footprint SOT23-5 (SOT-23/SC-74A; 5 Leads; Body 3 x 3 mm, inc. leads (LxW max))
pins: 1 EN "Chip Enable Mode Switch", 2 GND "Ground", 3 LX "Switching Output", 4 VIN "Power Input", 5 FB "Output Voltage Sense"

## SC662K
designator U?
250mA Low Dropout Voltage Regulator IC
footprint SOT23-3 (SOT-23; 3 Leads; Body 3.0 x 2.5 mm, inc. leads (LxW max))
pins: 1 GND "Ground", 2 VOUT "Voltage Output", 3 VIN "Voltage Input"

## SD3068
designator U?
SD3068 RTC Timer, Built in resonant capacitor, full temperature compensation of the real time clock IC; VENDOR: www.whwave.com.cn
footprint SOP-8 (8-Pin Small Outline Integrated Circuit 1.27 mm Pitch, IPC Low Density)
pins: 1 OSCOUT "0～1.5V Crystal oscillator output", 2 OSCIN "0～1.5V Crystal oscillator input", 3 VBAT "2.3V～5.5V Standby battery input pin, built-in voltage and charging current optional charge Circuit", 4 GND "Ground", 5 SDA "Serial data input / output pin, the pin usually with a pull-up resistance To VDD, and the collector open output device and other open drain or Through the line and connected.", 6 SCL "Serial clock input pin, due to the rising / falling edge of SCL in the processing signal Number, pay particular attention to the rise / fall time of SCL signal, Should strictly comply with the specification.", 7 INT "Alarm interrupt output pin, according to the control register to set up their work It can model, to prohibit by rewriting the control register.", 8 VDD "Power 2.7V～5.5V"

## SGM803
designator U?
SGM803/SGM809/SGM810 / Microprocessor Supervisory / Circuit
footprint SOT23-3 (SOT-23; 3 Leads; Body 3.0 x 2.5 mm, inc. leads (LxW max))
pins: 1 GND (power) "Ground", 2 ~{RESET} "Open-Drain RESET Output", 3 VCC (power) "Power supply"

## SHT2x
designator U?
Humidity and Temperature Sensor
footprint SHT2x (SHT2x, The outer dotted line represents the  outer dime  nsion of the DFN package)
pins: 1 SDA (io) "Serial  Data  , bidirectional", 2 VSS (power) "Ground", 3 NC "Not Connected, floating", 4 NC "Not Connected, floating", 5 VDD (power) "Supply Voltage", 6 SCL (io) "Serial Clock, bidirectional"

## SI866x
designator U?
SI866x LOW POWER SIX-CHANNEL DIGITAL ISOLATOR
footprint SOP-16 (16-Pin Small Outline Integrated Circuit 1.27 mm Pitch, IPC Low Density)
pins: 1 VDD1 (power) "Side 1 power supply", 2 A1 (in) "Side 1 digital input", 3 A2 (in) "Side 1 digital input", 4 A3 (in) "Side 1 digital input", 5 A4 (io), 6 A5 (io), 7 A6 (io), 8 GND1 (power), 9 GND2 (io), 10 B6 (io), 11 B5 (io), 12 B4 (io), 13 B3 (out), 14 B2 (out), 15 B1 (out), 16 VDD2 (power)
text: ISOLATION

## SI53344
designator U?
SI53344 Low-Jitter LVDS Fanout Clock Buffers with up to 10 LVDS Outputs from Any-Format Input and Wide Frequency Range from dc up to 1250 MHz
footprint QFN32_SI53344 (32-Pin Quad Flat No-Lead 0.5 mm Pitch, IPC High Density)
pins: 1 VDD "Core and Output voltage supply. Bypass with 1.0 μF capacitor and place as close to the VDD pin as possible.", 2 CLK_SEL "Mux input select pin (LVCMOS). When CLK_SEL is high, CLK1 is selected. When CLK_SEL is low, CLK0 is selected. CLK_SEL contains an internal pull-down resistor.", 3 CLK0_P "Input clock 0.", 4 CLK0_N "Input clock 0 (complement). When CLK0 is driven by a single-ended LVCMOS input, connect CLK0b to an appropriate bias voltage (e.g., VDD/2.", 5 NC "No connect. Leave this pin unconnected.", 6 CLK1_P "Input clock 1.", 7 CLK1_N "Input clock 1 (complement). When CLK1 is driven by a single-ended LVCMOS input, connect CLK1b to an appropriate bias voltage (e.g., VDD/2.", 8 GND "Ground.", 9 VDD "Core and Output voltage supply. Bypass with 1.0 μF capacitor and place as closely to the VDD pin as possible.", 10 Q9_N "Output clock 9 (complement).", 11 Q9_P "Output clock 9.", 12 Q8_N "Output clock 8 (complement).", 13 Q8_P "Output clock 8.", 14 Q7_N "Output clock 7 (complement).", 15 Q7_P "Output clock 7.", 16 VDD "Core and Output voltage supply. Bypass with 1.0 μF capacitor and place as closely to the VDD pin as possible.", 17 Q6_N "Output clock 6 (complement).", 18 Q6_P "Output clock 6.", 19 Q5_N "Output clock 5 (complement).", 20 Q5_P "Output clock 5.", 21 Q4_N "Output clock 4 (complement).", 22 Q4_P "Output clock 4.", 23 Q3_N "Output clock 3 (complement).", 24 Q3_P "Output clock 3.", 25 VDD "Core and Output voltage supply. Bypass with 1.0 μF capacitor and place as closely to the VDD pin as possible.", 26 Q2_N "Output clock 2 (complement).", 27 Q2_P "Output clock 2.", 28 Q1_N "Output clock 1 (complement).", 29 Q1_P "Output clock 1.", 30 Q0_N "Output clock 0 (complement).", 31 Q0_P "Output clock 0.", 32 VDD "Core voltage supply. Bypass with 1.0 μF capacitor and place as closely to the VDD pin as possible.", 33 GND_PAD "Exposed Ground Pad. Power supply ground and thermal relief."

## SK6812
designator U?
SK6812 is a set of smart control circuit and a light emitting circuit in  one of the controlled LED source.
footprint SK6812_5050 (SMT LED)
pins: 1 VSS "Ground", 2 DIN "Control data signal input", 3 VDD "Power supply LED", 4 DOUT "Control data signal output"

## SPX3819
designator U?
500mA, Low-Noise LDO Voltage Regulator
footprint SOT23-5 (SOT-23/SC-74A; 5 Leads; Body 3 x 3 mm, inc. leads (LxW max))
pins: 1 IN, 2 GND, 3 EN, 4 BYP/ADJ, 5 OUT

## SRV05-4
designator U?
Low Capacitance(3pF) TVS Diode Array
footprint SOT23-6 (SOT-457/SC-74; 6 Leads; Body 3 x 3 mm, inc. leads (LxW max))
pins: 1, 2, 3, 4, 5, 6

## TDA1311A
designator U?
Stereo Continuous Calibration DAC
footprint SOP-8_N (8-Pin Small Outline Integrated Circuit 1.27 mm Pitch, IPC Medium Density)
pins: 1 BCK "bit clock input", 2 WS "word select input", 3 DATA "data input", 4 GND "ground", 5 VDD "supply voltage", 6 LCH "left channel output", 7 NC "not connected", 8 RCH "right channel output"

## TL431
designator U?
footprint TL431
pins: 1 Ref "REFERENCE", 2 A "ANODE", 3 K "CATHODE"

## TL431-SOT23-3
designator U?
footprint TL431-SOT23-3 (TL431)
pins: 1 K "CATHODE", 2 Ref "REFERENCE", 3 A "ANODE"

## TL432-SOT23-3
designator U?
footprint TL431-SOT23-3 (TL431)
pins: 1 Ref "REFERENCE", 2 K "CATHODE", 3 A "ANODE"

## TLP521-直插
designator U?
pins: 1 LED Anode, 2 LED Cathode, 3 Emitter, 4 Collector

## TLV2221
designator U?
footprint TLV2221
pins: 1, 2, 3, 4, 5

## TM8211
designator U?
Stereo Continuous Calibration DAC
footprint SOP-8_N (8-Pin Small Outline Integrated Circuit 1.27 mm Pitch, IPC Medium Density)
footprint SOP-8_M (8-Pin Small Outline Integrated Circuit 1.27 mm Pitch, IPC Low Density)
footprint SOP-8_L (8-Pin Small Outline Integrated Circuit 1.27 mm Pitch, IPC High Density)
pins: 1 BCK "bit clock input", 2 WS "word select input", 3 DATA "data input", 4 GND "ground", 5 VDD "supply voltage", 6 LCH "left channel output", 7 NC "not connected", 8 RCH "right channel output"

## TMP468_DSBGA
designator U?
TMP468 9-Channel (8-Remote and 1-Local), High-Accuracy Temperature Sensor; Manufacturer_Name: Texas Instruments; Manufacturer_Part_Number: TMP468AIYFFR; Datasheet Link: http://www.ti.com/lit/gpn/tmp468; Height: 1mm; Mouser Part Number: 595-TMP468AIYFFR; Mouser Price/Stock: https://www.mouser.com/Search/Refine.aspx?Keyword=595-TMP468AIYFFR
footprint DSBGA16_YFF0016_4X4_1.560X1.560X0.625 (DSBGA16 YFF0016 4x4 ball grid, 1.560x1.560x0.625mm, DIE SIZE BALL GRID ARRAY)
pins: A1 D1+ "Positive connection to remote temperature sensors. A total of 8 remote channels are supported. An unused channel must be connected to D–.", A2 D5+ "Positive connection to remote temperature sensors. A total of 8 remote channels are supported. An unused channel must be connected to D–.", A3 D- "Negative connection to remote temperature sensors. Common for 8 remote channels.", A4 GND "Supply ground connection", B1 D2+ "Positive connection to remote temperature sensors. A total of 8 remote channels are supported. An unused channel must be connected to D–.", B2 D6+ "Positive connection to remote temperature sensors. A total of 8 remote channels are supported. An unused channel must be connected to D–.", B3 ~{THERM} "Thermal shutdown or fan-control pin. Active low; open-drain; requires a pullup resistor to a voltage between 1.7 V and 3.6 V, not necessarily V+. If this pin is not used it may be left open or grounded.", B4 ADD "Address select. Connect to GND, V+, SDA, or SCL.", C1 D3+ "Positive connection to remote temperature sensors. A total of 8 remote channels are supported. An unused channel must be connected to D–.", C2 D7+ "Positive connection to remote temperature sensors. A total of 8 remote channels are supported. An unused channel must be connected to D–.", C3 ~{THERM2} "Second THERM output. Active low; open-drain; requires a pullup resistor to a voltage between 1.7 V and 3.6 V, not necessarily V+. If this pin is not used it may be left open or grounded.", C4 SDA "Serial data line for I2C- or SMBus-compatible two-wire interface. Open-drain; requires a pullup resistor to a voltage between 1.7 V and 3.6 V, not necessarily V+.", D1 D4+ "Positive connection to remote temperature sensors. A total of 8 remote channels are supported. An unused channel must be connected to D–.", D2 D8+ "Positive connection to remote temperature sensors. A total of 8 remote channels are supported. An unused channel must be connected to D–.", D3 V+ "Positive supply voltage, 1.7 V to 3.6 V; requires 0.1-μF bypass capacitor to ground.", D4 SCL "Serial clock line for I2C or SMBus-compatible two-wire interface. Requires a pullup resistor to a voltage between 1.7 V and 3.6 V (not necessarily V+) if driven by an open-drain output."

## TMP468_VQFN
designator U?
TMP468 9-Channel (8-Remote and 1-Local), High-Accuracy Temperature Sensor; Manufacturer_Name: Texas Instruments; Manufacturer_Part_Number: TMP468AIRGTR; Datasheet Link: http://www.ti.com/lit/gpn/tmp468; Height: 1mm; Mouser Part Number: 595-TMP468AIRGTR; Mouser Price/Stock: https://www.mouser.com/Search/Refine.aspx?Keyword=595-TMP468AIRGTR
footprint VQFN16_RGT0016C_3X3X1 (VQFN16 RGT0016C,3x3x1mm,PLASTIC QUAD FLATPACK - NO LEAD)
pins: 1 D6+ "Positive connection to remote temperature sensors. A total of 8 remote channels are supported. An unused channel must be connected to D–.", 2 D5+ "Positive connection to remote temperature sensors. A total of 8 remote channels are supported. An unused channel must be connected to D–.", 3 D4+ "Positive connection to remote temperature sensors. A total of 8 remote channels are supported. An unused channel must be connected to D–.", 4 D3+ "Positive connection to remote temperature sensors. A total of 8 remote channels are supported. An unused channel must be connected to D–.", 5 D2+ "Positive connection to remote temperature sensors. A total of 8 remote channels are supported. An unused channel must be connected to D–.", 6 D1+ "Positive connection to remote temperature sensors. A total of 8 remote channels are supported. An unused channel must be connected to D–.", 7 D- "Negative connection to remote temperature sensors. Common for 8 remote channels.", 8 GND "Supply ground connection", 9 ADD "Address select. Connect to GND, V+, SDA, or SCL.", 10 ~{THERM} "Thermal shutdown or fan-control pin. Active low; open-drain; requires a pullup resistor to a voltage between 1.7 V and 3.6 V, not necessarily V+. If this pin is not used it may be left open or grounded.", 11 ~{THERM2} "Second THERM output. Active low; open-drain; requires a pullup resistor to a voltage between 1.7 V and 3.6 V, not necessarily V+. If this pin is not used it may be left open or grounded.", 12 SDA "Serial data line for I2C- or SMBus-compatible two-wire interface. Open-drain; requires a pullup resistor to a voltage between 1.7 V and 3.6 V, not necessarily V+.", 13 SCL "Serial clock line for I2C or SMBus-compatible two-wire interface. Requires a pullup resistor to a voltage between 1.7 V and 3.6 V (not necessarily V+) if driven by an open-drain output.", 14 V+ "Positive supply voltage, 1.7 V to 3.6 V; requires 0.1-μF bypass capacitor to ground.", 15 D8+ "Positive connection to remote temperature sensors. A total of 8 remote channels are supported. An unused channel must be connected to D–.", 16 D7+ "Positive connection to remote temperature sensors. A total of 8 remote channels are supported. An unused channel must be connected to D–.", 17 THERMAL_PAD "Thermal pad,  The package thermal pad must be soldered to the printed circuit board for thermal and mechanical performance."

## TP4056
designator U?
1A lithium-ion battery linear charger, LDO
footprint TP4056
pins: 1 TEMP, 2 PROG, 3 GND, 4 VCC, 5 BAT, 6 ~{STDBY}, 7 ~{CHRG}, 8 CE